# Altium schematic symbol library TI-TPS22860DBVR.SchLib: 2 symbols
Pins are listed as number, name and electrical type; pins without a type are passive.

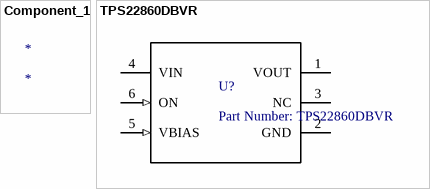
[diagram p0: symbols Component_1 to TPS22860DBVR]

## Component_1
designator *

## TPS22860DBVR
designator U?, comment Part Number: TPS22860DBVR
No Description Available; Vendor: Texas Instruments; Built_By: Texas_Instrument_Team; CompType: IC; Manufacturer_Part_Number: TPS22860DBVR; Copyright: Copyright (C) 2018 Accelerated Designs. All rights reserved; RefDes: RefDes; Type: DEV; Value: Value; Application_BuildNumber: *; PartNumber: TPS22860DBVR; PackageReference: DBV0006A; MountType: SMT; RoHS: Y; Manufacturer: Texas Instruments
footprint DBV0006A_N
pins: 1 VOUT (power), 2 GND (power), 3 NC, 4 VIN (power), 5 VBIAS (in), 6 ON (in)